# EAGLE library part SOCKET-30 (library con-3m-skt-header)
30 pin PCB Socket (3m 85xx/51xx)
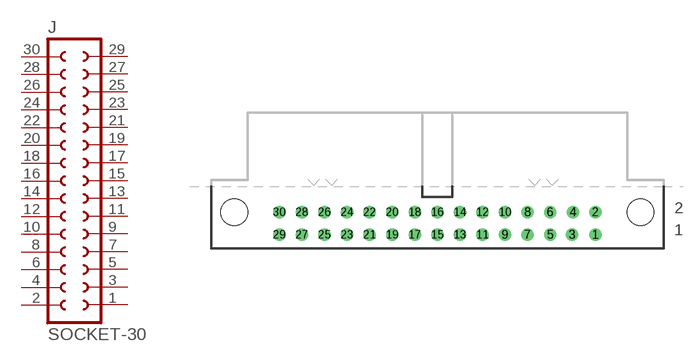
[diagram p4: symbol with the pads of S30RA; footprint S30RA]

Designator prefix J

## SOCKET-30RA  [S30RA]
1  1  pas
2  2  pas
3  3  pas
4  4  pas
5  5  pas
6  6  pas
7  7  pas
8  8  pas
9  9  pas
10  10  pas
11  11  pas
12  12  pas
13  13  pas
14  14  pas
15  15  pas
16  16  pas
17  17  pas
18  18  pas
19  19  pas
20  20  pas
21  21  pas
22  22  pas
23  23  pas
24  24  pas
25  25  pas
26  26  pas
27  27  pas
28  28  pas
29  29  pas
30  30  pas

## Footprint S30RA (pad centres in mm)
30 pin R/A PCB socket 3M 5130-xxxxx
drill 0.8 pad 1.4: 1 17.78,-5.44; 2 17.78,-2.9; 3 15.16,-5.44; 4 15.24,-2.9; 5 12.7,-5.44; 6 12.7,-2.9; 7 10.16,-5.44; 8 10.16,-2.9; 9 7.62,-5.44; 10 7.62,-2.9; 11 5.08,-5.44; 12 5.08,-2.9; 13 2.54,-5.44; 14 2.54,-2.9; 15 0,-5.44; 16 0,-2.9; 17 -2.54,-5.44; 18 -2.54,-2.9; 19 -5.08,-5.44; 20 -5.08,-2.9; 21 -7.62,-5.44; 22 -7.62,-2.9; 23 -10.16,-5.44; 24 -10.16,-2.9; 25 -12.7,-5.44; 26 -12.7,-2.9; 27 -15.24,-5.44; 28 -15.24,-2.9; 29 -17.78,-5.44; 30 -17.78,-2.9
hole 3 at -22.85,-2.9
hole 3 at 22.85,-2.9